# Altium footprint library PANASONIC_ERJMS4H.PcbLib: 1 footprints
Each footprint in its own frame and in the unit in brackets; x right, y up, seen from the top. Pads: shape width x height; smd on the part's side, far side on the other; paste and mask are expansions set on the pad; w line width, h text height; cw(c..) or ccw(c..) is an arc to the next point about the centre after c.
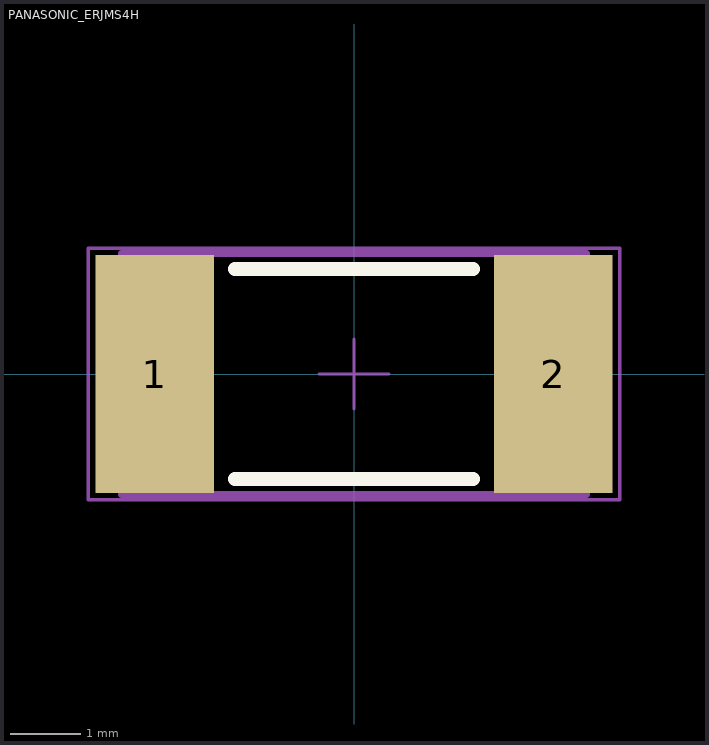
[diagram p0: the footprint, top view; thin cyan lines are the x and y axes]

## PANASONIC_ERJMS4H [mm] "PANASONIC_ERJMS4H"
height 1.35
pads (2):
  rect 1.7x3.4 smd mask+0.05: 1(-2.85,0) 2(2.85,0)
Top Overlay:
  lines w0.2: -1.7,-1.5 1.7,-1.5 ; -1.7,1.5 1.7,1.5
Top 3D Body:
  lines w0.1: -3.325,-1.725 3.325,-1.725 3.325,1.725 -3.325,1.725 -3.325,-1.725
Top Courtyard (Mech15):
  lines w0.05: -0.5,0 0.5,0 ; 0,-0.5 0,0.5 ; -3.8,-1.8 -3.8,1.8 3.8,1.8 3.8,-1.8 -3.8,-1.8
3D body "Res,2512,Panasonic,ERJMS4H.step": height 1.2, standoff 0, extent -3.2,-1.6 3.2,1.6